# Altium footprint library x-TDK_FLF3215.PcbLib: 1 footprints
Each footprint in its own frame and in the unit in brackets; x right, y up, seen from the top. Pads: shape width x height; smd on the part's side, far side on the other; paste and mask are expansions set on the pad; w line width, h text height; cw(c..) or ccw(c..) is an arc to the next point about the centre after c.
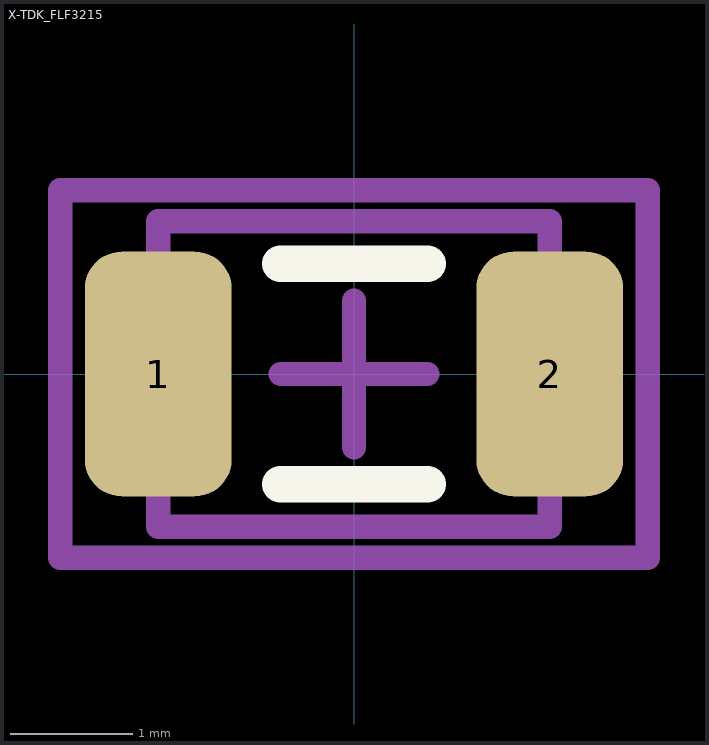
[diagram p0: the footprint, top view; thin cyan lines are the x and y axes]

## X-TDK_FLF3215 [mm] "SMD Inductor, Shielded"
height 1.55
pads (2):
  rrect50% 1.2x2 smd: 1(-1.6,0) 2(1.6,0)
Top Overlay:
  lines w0.3: -0.6,-0.9 0.6,-0.9 ; -0.6,0.9 0.6,0.9
Mechanical 13:
  lines w0.2: -1.6,-1.25 -1.6,1.25 1.6,1.25 1.6,-1.25 -1.6,-1.25
Mechanical 15:
  lines w0.2: -0.6,0 0.6,0 ; 0,-0.6 0,0.6 ; -2.4,-1.5 2.4,-1.5 2.4,1.5 -2.4,1.5 -2.4,-1.5
3D body: height 1.55, standoff 0, extent -1.599,-1.249 1.599,1.249